# Altium integrated library Capacitors - Ceramic - 0402.IntLib: 4569 symbols (part 22 of 100)
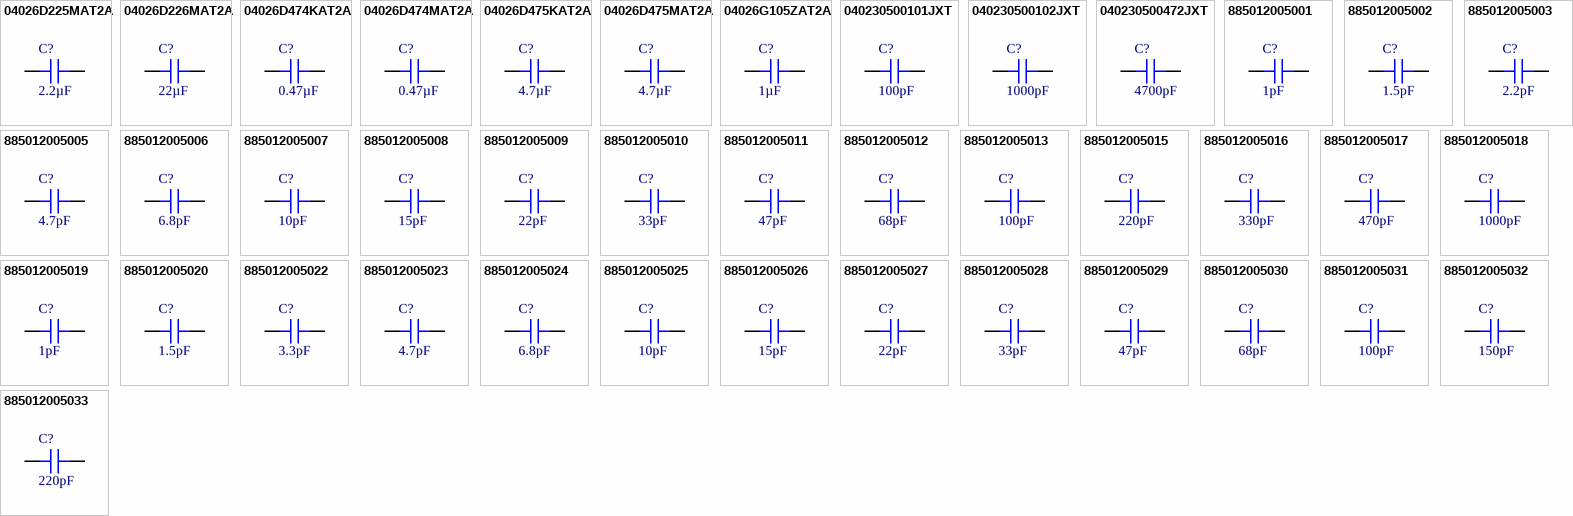
[diagram p135: symbols 04026D225MAT2A to 885012005033]

## 885012005008
designator C?, comment 15pF
CAP CER 15PF 10V C0G/NP0 0402; Part Number: 885012005008; Manufacturer: Würth Elektronik; Temperature Coefficient: C0G, NP0; Tolerance: ±5%; Value: 15pF; Applications: General Purpose; Capacitance: 15pF; ComponentLink1Description: Datasheet; ComponentLink1URL: https://katalog.we-online.de/pbs/datasheet/885012005008.pdf; ComponentLink2Description: DigiKey Link; ComponentLink2URL: http://digikey.com/product-detail/en/w-rth-elektronik/885012005008/732-7426-1-ND/5454053; Device Package: 0402 (1005 Metric); LastUpdated: 9/2/2020 1:02:12 AM; Lifecycle Status: Active; Minimum Order: 1; Mounting Type: Surface Mount, MLCC; Operating Temperature: -55°C ~ 125°C; Package / Case: 0402 (1005 Metric); Packaging: TapeAndReel; PartId: 7101; Part Status: Active; Price: 0.02; Series: WCAP-CSGP; Size / Dimension: 0.039" L x 0.020" W (1.00mm x 0.50mm); Supplier 1: DigiKey; Supplier Part Number 1: 732-7426-1-ND; Thickness (Max): 0.022" (0.55mm); Voltage - Rated: 10V
footprint CAP 0402_1005
pins: 1, 2

## 885012005009
designator C?, comment 22pF
CAP CER 22PF 10V C0G/NP0 0402; Part Number: 885012005009; Manufacturer: Würth Elektronik; Temperature Coefficient: C0G, NP0; Tolerance: ±5%; Value: 22pF; Applications: General Purpose; Capacitance: 22pF; ComponentLink1Description: Datasheet; ComponentLink1URL: https://katalog.we-online.de/pbs/datasheet/885012005009.pdf; ComponentLink2Description: DigiKey Link; ComponentLink2URL: http://digikey.com/product-detail/en/w-rth-elektronik/885012005009/732-7427-1-ND/5454054; Device Package: 0402 (1005 Metric); LastUpdated: 9/2/2020 1:02:11 AM; Lifecycle Status: Active; Minimum Order: 1; Mounting Type: Surface Mount, MLCC; Operating Temperature: -55°C ~ 125°C; Package / Case: 0402 (1005 Metric); Packaging: TapeAndReel; PartId: 7729; Part Status: Active; Price: 0.02; Series: WCAP-CSGP; Size / Dimension: 0.039" L x 0.020" W (1.00mm x 0.50mm); Supplier 1: DigiKey; Supplier Part Number 1: 732-7427-1-ND; Thickness (Max): 0.022" (0.55mm); Voltage - Rated: 10V
footprint CAP 0402_1005
pins: 1, 2

## 885012005010
designator C?, comment 33pF
CAP CER 33PF 10V C0G/NP0 0402; Part Number: 885012005010; Manufacturer: Würth Elektronik; Temperature Coefficient: C0G, NP0; Tolerance: ±5%; Value: 33pF; Applications: General Purpose; Capacitance: 33pF; ComponentLink1Description: Datasheet; ComponentLink1URL: https://katalog.we-online.de/pbs/datasheet/885012005010.pdf; ComponentLink2Description: DigiKey Link; ComponentLink2URL: http://digikey.com/product-detail/en/w-rth-elektronik/885012005010/732-7428-1-ND/5454055; Device Package: 0402 (1005 Metric); LastUpdated: 9/2/2020 1:02:24 AM; Lifecycle Status: Active; Minimum Order: 1; Mounting Type: Surface Mount, MLCC; Operating Temperature: -55°C ~ 125°C; Package / Case: 0402 (1005 Metric); Packaging: TapeAndReel; PartId: 2049; Part Status: Active; Price: 0.02; Series: WCAP-CSGP; Size / Dimension: 0.039" L x 0.020" W (1.00mm x 0.50mm); Supplier 1: DigiKey; Supplier Part Number 1: 732-7428-1-ND; Thickness (Max): 0.022" (0.55mm); Voltage - Rated: 10V
footprint CAP 0402_1005
pins: 1, 2

## 885012005011
designator C?, comment 47pF
CAP CER 47PF 10V C0G/NP0 0402; Part Number: 885012005011; Manufacturer: Würth Elektronik; Temperature Coefficient: C0G, NP0; Tolerance: ±5%; Value: 47pF; Applications: General Purpose; Capacitance: 47pF; ComponentLink1Description: Datasheet; ComponentLink1URL: https://katalog.we-online.de/pbs/datasheet/885012005011.pdf; ComponentLink2Description: DigiKey Link; ComponentLink2URL: http://digikey.com/product-detail/en/w-rth-elektronik/885012005011/732-7429-1-ND/5454056; Device Package: 0402 (1005 Metric); LastUpdated: 9/2/2020 1:02:11 AM; Lifecycle Status: Active; Minimum Order: 1; Mounting Type: Surface Mount, MLCC; Operating Temperature: -55°C ~ 125°C; Package / Case: 0402 (1005 Metric); Packaging: TapeAndReel; PartId: 7738; Part Status: Active; Price: 0.02; Series: WCAP-CSGP; Size / Dimension: 0.039" L x 0.020" W (1.00mm x 0.50mm); Supplier 1: DigiKey; Supplier Part Number 1: 732-7429-1-ND; Thickness (Max): 0.022" (0.55mm); Voltage - Rated: 10V
footprint CAP 0402_1005
pins: 1, 2

## 885012005012
designator C?, comment 68pF
CAP CER 68PF 10V C0G/NP0 0402; Part Number: 885012005012; Manufacturer: Würth Elektronik; Temperature Coefficient: C0G, NP0; Tolerance: ±5%; Value: 68pF; Applications: General Purpose; Capacitance: 68pF; ComponentLink1Description: Datasheet; ComponentLink1URL: https://katalog.we-online.de/pbs/datasheet/885012005012.pdf; ComponentLink2Description: DigiKey Link; ComponentLink2URL: http://digikey.com/product-detail/en/w-rth-elektronik/885012005012/732-7430-1-ND/5454057; Device Package: 0402 (1005 Metric); LastUpdated: 9/2/2020 1:02:22 AM; Lifecycle Status: Active; Minimum Order: 1; Mounting Type: Surface Mount, MLCC; Operating Temperature: -55°C ~ 125°C; Package / Case: 0402 (1005 Metric); Packaging: TapeAndReel; PartId: 2813; Part Status: Active; Price: 0.02; Series: WCAP-CSGP; Size / Dimension: 0.039" L x 0.020" W (1.00mm x 0.50mm); Supplier 1: DigiKey; Supplier Part Number 1: 732-7430-1-ND; Thickness (Max): 0.022" (0.55mm); Voltage - Rated: 10V
footprint CAP 0402_1005
pins: 1, 2

## 885012005013
designator C?, comment 100pF
CAP CER 100PF 10V C0G/NP0 0402; Part Number: 885012005013; Manufacturer: Würth Elektronik; Temperature Coefficient: C0G, NP0; Tolerance: ±5%; Value: 100pF; Applications: General Purpose; Capacitance: 100pF; ComponentLink1Description: Datasheet; ComponentLink1URL: https://katalog.we-online.de/pbs/datasheet/885012005013.pdf; ComponentLink2Description: DigiKey Link; ComponentLink2URL: http://digikey.com/product-detail/en/w-rth-elektronik/885012005013/732-7431-1-ND/5454058; Device Package: 0402 (1005 Metric); LastUpdated: 9/2/2020 1:02:11 AM; Lifecycle Status: Active; Minimum Order: 1; Mounting Type: Surface Mount, MLCC; Operating Temperature: -55°C ~ 125°C; Package / Case: 0402 (1005 Metric); Packaging: TapeAndReel; PartId: 7732; Part Status: Active; Price: 0.02; Series: WCAP-CSGP; Size / Dimension: 0.039" L x 0.020" W (1.00mm x 0.50mm); Supplier 1: DigiKey; Supplier Part Number 1: 732-7431-1-ND; Thickness (Max): 0.022" (0.55mm); Voltage - Rated: 10V
footprint CAP 0402_1005
pins: 1, 2

## 885012005015
designator C?, comment 220pF
CAP CER 220PF 10V C0G/NP0 0402; Part Number: 885012005015; Manufacturer: Würth Elektronik; Temperature Coefficient: C0G, NP0; Tolerance: ±5%; Value: 220pF; Applications: General Purpose; Capacitance: 220pF; ComponentLink1Description: Datasheet; ComponentLink1URL: https://katalog.we-online.de/pbs/datasheet/885012005015.pdf; ComponentLink2Description: DigiKey Link; ComponentLink2URL: http://digikey.com/product-detail/en/w-rth-elektronik/885012005015/732-7433-1-ND/5454060; Device Package: 0402 (1005 Metric); LastUpdated: 9/2/2020 1:02:12 AM; Lifecycle Status: Active; Minimum Order: 1; Mounting Type: Surface Mount, MLCC; Operating Temperature: -55°C ~ 125°C; Package / Case: 0402 (1005 Metric); Packaging: TapeAndReel; PartId: 7067; Part Status: Active; Price: 0.02; Series: WCAP-CSGP; Size / Dimension: 0.039" L x 0.020" W (1.00mm x 0.50mm); Supplier 1: DigiKey; Supplier Part Number 1: 732-7433-1-ND; Thickness (Max): 0.022" (0.55mm); Voltage - Rated: 10V
footprint CAP 0402_1005
pins: 1, 2

## 885012005016
designator C?, comment 330pF
CAP CER 330PF 10V NP0 0402; Part Number: 885012005016; Manufacturer: Würth Elektronik; Temperature Coefficient: C0G, NP0; Tolerance: ±5%; Value: 330pF; Applications: General Purpose; Capacitance: 330pF; ComponentLink1Description: Datasheet; ComponentLink1URL: https://katalog.we-online.de/pbs/datasheet/885012005016.pdf; ComponentLink2Description: DigiKey Link; ComponentLink2URL: http://digikey.com/product-detail/en/w-rth-elektronik/885012005016/732-12246-1-ND/9346266; Device Package: 0402 (1005 Metric); LastUpdated: 9/2/2020 1:02:08 AM; Lifecycle Status: Active; Minimum Order: 1; Mounting Type: Surface Mount, MLCC; Operating Temperature: -55°C ~ 125°C; Package / Case: 0402 (1005 Metric); Packaging: TapeAndReel; PartId: 9165; Part Status: Active; Price: 0.01; Series: WCAP-CSGP; Size / Dimension: 0.039" L x 0.020" W (1.00mm x 0.50mm); Supplier 1: DigiKey; Supplier Part Number 1: 732-12246-1-ND; Thickness (Max): 0.022" (0.55mm); Voltage - Rated: 10V
footprint CAP 0402_1005
pins: 1, 2

## 885012005017
designator C?, comment 470pF
CAP CER 470PF 10V NP0 0402; Part Number: 885012005017; Manufacturer: Würth Elektronik; Temperature Coefficient: C0G, NP0; Tolerance: ±5%; Value: 470pF; Applications: General Purpose; Capacitance: 470pF; ComponentLink1Description: Datasheet; ComponentLink1URL: https://katalog.we-online.de/pbs/datasheet/885012005017.pdf; ComponentLink2Description: DigiKey Link; ComponentLink2URL: http://digikey.com/product-detail/en/w-rth-elektronik/885012005017/732-12247-1-ND/9346267; Device Package: 0402 (1005 Metric); LastUpdated: 9/2/2020 1:02:22 AM; Lifecycle Status: Active; Minimum Order: 1; Mounting Type: Surface Mount, MLCC; Operating Temperature: -55°C ~ 125°C; Package / Case: 0402 (1005 Metric); Packaging: TapeAndReel; PartId: 2628; Part Status: Active; Price: 0.01; Series: WCAP-CSGP; Size / Dimension: 0.039" L x 0.020" W (1.00mm x 0.50mm); Supplier 1: DigiKey; Supplier Part Number 1: 732-12247-1-ND; Thickness (Max): 0.022" (0.55mm); Voltage - Rated: 10V
footprint CAP 0402_1005
pins: 1, 2

## 885012005018
designator C?, comment 1000pF
CAP CER 1000PF 10V C0G/NP0 0402; Part Number: 885012005018; Manufacturer: Würth Elektronik; Temperature Coefficient: C0G, NP0; Tolerance: ±5%; Value: 1000pF; Applications: General Purpose; Capacitance: 1000pF; ComponentLink1Description: Datasheet; ComponentLink1URL: https://katalog.we-online.de/pbs/datasheet/885012005018.pdf; ComponentLink2Description: DigiKey Link; ComponentLink2URL: http://digikey.com/product-detail/en/w-rth-elektronik/885012005018/732-7434-1-ND/5454061; Device Package: 0402 (1005 Metric); LastUpdated: 9/2/2020 1:02:12 AM; Lifecycle Status: Active; Minimum Order: 1; Mounting Type: Surface Mount, MLCC; Operating Temperature: -55°C ~ 125°C; Package / Case: 0402 (1005 Metric); Packaging: TapeAndReel; PartId: 7156; Part Status: Active; Price: 0.04; Series: WCAP-CSGP; Size / Dimension: 0.039" L x 0.020" W (1.00mm x 0.50mm); Supplier 1: DigiKey; Supplier Part Number 1: 732-7434-1-ND; Thickness (Max): 0.022" (0.55mm); Voltage - Rated: 10V
footprint CAP 0402_1005
pins: 1, 2

## 885012005019
designator C?, comment 1pF
CAP CER 1PF 16V C0G/NP0 0402; Part Number: 885012005019; Manufacturer: Würth Elektronik; Temperature Coefficient: C0G, NP0; Tolerance: ±0.5pF; Value: 1pF; Applications: General Purpose; Capacitance: 1pF; ComponentLink1Description: Datasheet; ComponentLink1URL: https://katalog.we-online.de/pbs/datasheet/885012005019.pdf; ComponentLink2Description: DigiKey Link; ComponentLink2URL: http://digikey.com/product-detail/en/w-rth-elektronik/885012005019/732-7435-1-ND/5454062; Device Package: 0402 (1005 Metric); LastUpdated: 9/2/2020 1:02:10 AM; Lifecycle Status: Active; Minimum Order: 1; Mounting Type: Surface Mount, MLCC; Operating Temperature: -55°C ~ 125°C; Package / Case: 0402 (1005 Metric); Packaging: TapeAndReel; PartId: 8079; Part Status: Active; Price: 0.02; Series: WCAP-CSGP; Size / Dimension: 0.039" L x 0.020" W (1.00mm x 0.50mm); Supplier 1: DigiKey; Supplier Part Number 1: 732-7435-1-ND; Thickness (Max): 0.022" (0.55mm); Voltage - Rated: 16V
footprint CAP 0402_1005
pins: 1, 2

## 885012005020
designator C?, comment 1.5pF
CAP CER 1.5PF 16V C0G/NP0 0402; Part Number: 885012005020; Manufacturer: Würth Elektronik; Temperature Coefficient: C0G, NP0; Tolerance: ±0.5pF; Value: 1.5pF; Applications: General Purpose; Capacitance: 1.5pF; ComponentLink1Description: Datasheet; ComponentLink1URL: https://katalog.we-online.de/pbs/datasheet/885012005020.pdf; ComponentLink2Description: DigiKey Link; ComponentLink2URL: http://digikey.com/product-detail/en/w-rth-elektronik/885012005020/732-7436-1-ND/5454063; Device Package: 0402 (1005 Metric); LastUpdated: 9/2/2020 1:02:10 AM; Lifecycle Status: Active; Minimum Order: 1; Mounting Type: Surface Mount, MLCC; Operating Temperature: -55°C ~ 125°C; Package / Case: 0402 (1005 Metric); Packaging: TapeAndReel; PartId: 8126; Part Status: Active; Price: 0.02; Series: WCAP-CSGP; Size / Dimension: 0.039" L x 0.020" W (1.00mm x 0.50mm); Supplier 1: DigiKey; Supplier Part Number 1: 732-7436-1-ND; Thickness (Max): 0.022" (0.55mm); Voltage - Rated: 16V
footprint CAP 0402_1005
pins: 1, 2

## 885012005022
designator C?, comment 3.3pF
CAP CER 3.3PF 16V C0G/NP0 0402; Part Number: 885012005022; Manufacturer: Würth Elektronik; Temperature Coefficient: C0G, NP0; Tolerance: ±0.5pF; Value: 3.3pF; Applications: General Purpose; Capacitance: 3.3pF; ComponentLink1Description: Datasheet; ComponentLink1URL: https://katalog.we-online.de/pbs/datasheet/885012005022.pdf; ComponentLink2Description: DigiKey Link; ComponentLink2URL: http://digikey.com/product-detail/en/w-rth-elektronik/885012005022/732-7438-1-ND/5454065; Device Package: 0402 (1005 Metric); LastUpdated: 9/2/2020 1:02:24 AM; Lifecycle Status: Active; Minimum Order: 1; Mounting Type: Surface Mount, MLCC; Operating Temperature: -55°C ~ 125°C; Package / Case: 0402 (1005 Metric); Packaging: TapeAndReel; PartId: 2019; Part Status: Active; Price: 0.02; Series: WCAP-CSGP; Size / Dimension: 0.039" L x 0.020" W (1.00mm x 0.50mm); Supplier 1: DigiKey; Supplier Part Number 1: 732-7438-1-ND; Thickness (Max): 0.022" (0.55mm); Voltage - Rated: 16V
footprint CAP 0402_1005
pins: 1, 2

## 885012005023
designator C?, comment 4.7pF
CAP CER 4.7PF 16V C0G/NP0 0402; Part Number: 885012005023; Manufacturer: Würth Elektronik; Temperature Coefficient: C0G, NP0; Tolerance: ±0.5pF; Value: 4.7pF; Applications: General Purpose; Capacitance: 4.7pF; ComponentLink1Description: Datasheet; ComponentLink1URL: https://katalog.we-online.de/pbs/datasheet/885012005023.pdf; ComponentLink2Description: DigiKey Link; ComponentLink2URL: http://digikey.com/product-detail/en/w-rth-elektronik/885012005023/732-7439-1-ND/5454066; Device Package: 0402 (1005 Metric); LastUpdated: 9/2/2020 1:02:24 AM; Lifecycle Status: Active; Minimum Order: 1; Mounting Type: Surface Mount, MLCC; Operating Temperature: -55°C ~ 125°C; Package / Case: 0402 (1005 Metric); Packaging: TapeAndReel; PartId: 2042; Part Status: Active; Price: 0.02; Series: WCAP-CSGP; Size / Dimension: 0.039" L x 0.020" W (1.00mm x 0.50mm); Supplier 1: DigiKey; Supplier Part Number 1: 732-7439-1-ND; Thickness (Max): 0.022" (0.55mm); Voltage - Rated: 16V
footprint CAP 0402_1005
pins: 1, 2

## 885012005024
designator C?, comment 6.8pF
CAP CER 6.8PF 16V C0G/NP0 0402; Part Number: 885012005024; Manufacturer: Würth Elektronik; Temperature Coefficient: C0G, NP0; Tolerance: ±0.5pF; Value: 6.8pF; Applications: General Purpose; Capacitance: 6.8pF; ComponentLink1Description: Datasheet; ComponentLink1URL: https://katalog.we-online.de/pbs/datasheet/885012005024.pdf; ComponentLink2Description: DigiKey Link; ComponentLink2URL: http://digikey.com/product-detail/en/w-rth-elektronik/885012005024/732-7440-1-ND/5454067; Device Package: 0402 (1005 Metric); LastUpdated: 9/2/2020 1:02:10 AM; Lifecycle Status: Active; Minimum Order: 1; Mounting Type: Surface Mount, MLCC; Operating Temperature: -55°C ~ 125°C; Package / Case: 0402 (1005 Metric); Packaging: TapeAndReel; PartId: 8046; Part Status: Active; Price: 0.02; Series: WCAP-CSGP; Size / Dimension: 0.039" L x 0.020" W (1.00mm x 0.50mm); Supplier 1: DigiKey; Supplier Part Number 1: 732-7440-1-ND; Thickness (Max): 0.022" (0.55mm); Voltage - Rated: 16V
footprint CAP 0402_1005
pins: 1, 2

## 885012005025
designator C?, comment 10pF
CAP CER 10PF 16V C0G/NP0 0402; Part Number: 885012005025; Manufacturer: Würth Elektronik; Temperature Coefficient: C0G, NP0; Tolerance: ±5%; Value: 10pF; Applications: General Purpose; Capacitance: 10pF; ComponentLink1Description: Datasheet; ComponentLink1URL: https://katalog.we-online.de/pbs/datasheet/885012005025.pdf; ComponentLink2Description: DigiKey Link; ComponentLink2URL: http://digikey.com/product-detail/en/w-rth-elektronik/885012005025/732-7441-1-ND/5454068; Device Package: 0402 (1005 Metric); LastUpdated: 9/2/2020 1:02:24 AM; Lifecycle Status: Active; Minimum Order: 1; Mounting Type: Surface Mount, MLCC; Operating Temperature: -55°C ~ 125°C; Package / Case: 0402 (1005 Metric); Packaging: TapeAndReel; PartId: 1972; Part Status: Active; Price: 0.02; Series: WCAP-CSGP; Size / Dimension: 0.039" L x 0.020" W (1.00mm x 0.50mm); Supplier 1: DigiKey; Supplier Part Number 1: 732-7441-1-ND; Thickness (Max): 0.022" (0.55mm); Voltage - Rated: 16V
footprint CAP 0402_1005
pins: 1, 2

## 885012005026
designator C?, comment 15pF
CAP CER 15PF 16V C0G/NP0 0402; Part Number: 885012005026; Manufacturer: Würth Elektronik; Temperature Coefficient: C0G, NP0; Tolerance: ±5%; Value: 15pF; Applications: General Purpose; Capacitance: 15pF; ComponentLink1Description: Datasheet; ComponentLink1URL: https://katalog.we-online.de/pbs/datasheet/885012005026.pdf; ComponentLink2Description: DigiKey Link; ComponentLink2URL: http://digikey.com/product-detail/en/w-rth-elektronik/885012005026/732-7442-1-ND/5454069; Device Package: 0402 (1005 Metric); LastUpdated: 9/2/2020 1:02:22 AM; Lifecycle Status: Active; Minimum Order: 1; Mounting Type: Surface Mount, MLCC; Operating Temperature: -55°C ~ 125°C; Package / Case: 0402 (1005 Metric); Packaging: TapeAndReel; PartId: 2710; Part Status: Active; Price: 0.02; Series: WCAP-CSGP; Size / Dimension: 0.039" L x 0.020" W (1.00mm x 0.50mm); Supplier 1: DigiKey; Supplier Part Number 1: 732-7442-1-ND; Thickness (Max): 0.022" (0.55mm); Voltage - Rated: 16V
footprint CAP 0402_1005
pins: 1, 2

## 885012005027
designator C?, comment 22pF
CAP CER 22PF 16V C0G/NP0 0402; Part Number: 885012005027; Manufacturer: Würth Elektronik; Temperature Coefficient: C0G, NP0; Tolerance: ±5%; Value: 22pF; Applications: General Purpose; Capacitance: 22pF; ComponentLink1Description: Datasheet; ComponentLink1URL: https://katalog.we-online.de/pbs/datasheet/885012005027.pdf; ComponentLink2Description: DigiKey Link; ComponentLink2URL: http://digikey.com/product-detail/en/w-rth-elektronik/885012005027/732-7443-1-ND/5454070; Device Package: 0402 (1005 Metric); LastUpdated: 9/2/2020 1:02:12 AM; Lifecycle Status: Active; Minimum Order: 1; Mounting Type: Surface Mount, MLCC; Operating Temperature: -55°C ~ 125°C; Package / Case: 0402 (1005 Metric); Packaging: TapeAndReel; PartId: 7083; Part Status: Active; Price: 0.02; Series: WCAP-CSGP; Size / Dimension: 0.039" L x 0.020" W (1.00mm x 0.50mm); Supplier 1: DigiKey; Supplier Part Number 1: 732-7443-1-ND; Thickness (Max): 0.022" (0.55mm); Voltage - Rated: 16V
footprint CAP 0402_1005
pins: 1, 2

## 885012005028
designator C?, comment 33pF
CAP CER 33PF 16V C0G/NP0 0402; Part Number: 885012005028; Manufacturer: Würth Elektronik; Temperature Coefficient: C0G, NP0; Tolerance: ±5%; Value: 33pF; Applications: General Purpose; Capacitance: 33pF; ComponentLink1Description: Datasheet; ComponentLink1URL: https://katalog.we-online.de/pbs/datasheet/885012005028.pdf; ComponentLink2Description: DigiKey Link; ComponentLink2URL: http://digikey.com/product-detail/en/w-rth-elektronik/885012005028/732-7444-1-ND/5454071; Device Package: 0402 (1005 Metric); LastUpdated: 9/2/2020 1:02:12 AM; Lifecycle Status: Active; Minimum Order: 1; Mounting Type: Surface Mount, MLCC; Operating Temperature: -55°C ~ 125°C; Package / Case: 0402 (1005 Metric); Packaging: TapeAndReel; PartId: 7064; Part Status: Active; Price: 0.02; Series: WCAP-CSGP; Size / Dimension: 0.039" L x 0.020" W (1.00mm x 0.50mm); Supplier 1: DigiKey; Supplier Part Number 1: 732-7444-1-ND; Thickness (Max): 0.022" (0.55mm); Voltage - Rated: 16V
footprint CAP 0402_1005
pins: 1, 2

## 885012005029
designator C?, comment 47pF
CAP CER 47PF 16V C0G/NP0 0402; Part Number: 885012005029; Manufacturer: Würth Elektronik; Temperature Coefficient: C0G, NP0; Tolerance: ±5%; Value: 47pF; Applications: General Purpose; Capacitance: 47pF; ComponentLink1Description: Datasheet; ComponentLink1URL: https://katalog.we-online.de/pbs/datasheet/885012005029.pdf; ComponentLink2Description: DigiKey Link; ComponentLink2URL: http://digikey.com/product-detail/en/w-rth-elektronik/885012005029/732-7445-1-ND/5454072; Device Package: 0402 (1005 Metric); LastUpdated: 9/2/2020 1:02:24 AM; Lifecycle Status: Active; Minimum Order: 1; Mounting Type: Surface Mount, MLCC; Operating Temperature: -55°C ~ 125°C; Package / Case: 0402 (1005 Metric); Packaging: TapeAndReel; PartId: 2025; Part Status: Active; Price: 0.02; Series: WCAP-CSGP; Size / Dimension: 0.039" L x 0.020" W (1.00mm x 0.50mm); Supplier 1: DigiKey; Supplier Part Number 1: 732-7445-1-ND; Thickness (Max): 0.022" (0.55mm); Voltage - Rated: 16V
footprint CAP 0402_1005
pins: 1, 2

## 885012005030
designator C?, comment 68pF
CAP CER 68PF 16V C0G/NP0 0402; Part Number: 885012005030; Manufacturer: Würth Elektronik; Temperature Coefficient: C0G, NP0; Tolerance: ±5%; Value: 68pF; Applications: General Purpose; Capacitance: 68pF; ComponentLink1Description: Datasheet; ComponentLink1URL: https://katalog.we-online.de/pbs/datasheet/885012005030.pdf; ComponentLink2Description: DigiKey Link; ComponentLink2URL: http://digikey.com/product-detail/en/w-rth-elektronik/885012005030/732-7446-1-ND/5454073; Device Package: 0402 (1005 Metric); LastUpdated: 9/2/2020 1:02:05 AM; Lifecycle Status: Active; Minimum Order: 1; Mounting Type: Surface Mount, MLCC; Operating Temperature: -55°C ~ 125°C; Package / Case: 0402 (1005 Metric); Packaging: TapeAndReel; PartId: 10271; Part Status: Active; Price: 0.02; Series: WCAP-CSGP; Size / Dimension: 0.039" L x 0.020" W (1.00mm x 0.50mm); Supplier 1: DigiKey; Supplier Part Number 1: 732-7446-1-ND; Thickness (Max): 0.022" (0.55mm); Voltage - Rated: 16V
footprint CAP 0402_1005
pins: 1, 2

## 885012005031
designator C?, comment 100pF
CAP CER 100PF 16V C0G/NP0 0402; Part Number: 885012005031; Manufacturer: Würth Elektronik; Temperature Coefficient: C0G, NP0; Tolerance: ±5%; Value: 100pF; Applications: General Purpose; Capacitance: 100pF; ComponentLink1Description: Datasheet; ComponentLink1URL: https://katalog.we-online.de/pbs/datasheet/885012005031.pdf; ComponentLink2Description: DigiKey Link; ComponentLink2URL: http://digikey.com/product-detail/en/w-rth-elektronik/885012005031/732-7447-1-ND/5454074; Device Package: 0402 (1005 Metric); LastUpdated: 9/2/2020 1:02:12 AM; Lifecycle Status: Active; Minimum Order: 1; Mounting Type: Surface Mount, MLCC; Operating Temperature: -55°C ~ 125°C; Package / Case: 0402 (1005 Metric); Packaging: TapeAndReel; PartId: 7113; Part Status: Active; Price: 0.01; Series: WCAP-CSGP; Size / Dimension: 0.039" L x 0.020" W (1.00mm x 0.50mm); Supplier 1: DigiKey; Supplier Part Number 1: 732-7447-1-ND; Thickness (Max): 0.022" (0.55mm); Voltage - Rated: 16V
footprint CAP 0402_1005
pins: 1, 2

## 885012005032
designator C?, comment 150pF
CAP CER 150PF 16V C0G/NP0 0402; Part Number: 885012005032; Manufacturer: Würth Elektronik; Temperature Coefficient: C0G, NP0; Tolerance: ±5%; Value: 150pF; Applications: General Purpose; Capacitance: 150pF; ComponentLink1Description: Datasheet; ComponentLink1URL: https://katalog.we-online.de/pbs/datasheet/885012005032.pdf; ComponentLink2Description: DigiKey Link; ComponentLink2URL: http://digikey.com/product-detail/en/w-rth-elektronik/885012005032/732-7448-1-ND/5454075; Device Package: 0402 (1005 Metric); LastUpdated: 9/2/2020 1:02:22 AM; Lifecycle Status: Active; Minimum Order: 1; Mounting Type: Surface Mount, MLCC; Operating Temperature: -55°C ~ 125°C; Package / Case: 0402 (1005 Metric); Packaging: TapeAndReel; PartId: 2741; Part Status: Active; Price: 0.01; Series: WCAP-CSGP; Size / Dimension: 0.039" L x 0.020" W (1.00mm x 0.50mm); Supplier 1: DigiKey; Supplier Part Number 1: 732-7448-1-ND; Thickness (Max): 0.022" (0.55mm); Voltage - Rated: 16V
footprint CAP 0402_1005
pins: 1, 2

## 885012005033
designator C?, comment 220pF
CAP CER 220PF 16V C0G/NP0 0402; Part Number: 885012005033; Manufacturer: Würth Elektronik; Temperature Coefficient: C0G, NP0; Tolerance: ±5%; Value: 220pF; Applications: General Purpose; Capacitance: 220pF; ComponentLink1Description: Datasheet; ComponentLink1URL: https://katalog.we-online.de/pbs/datasheet/885012005033.pdf; ComponentLink2Description: DigiKey Link; ComponentLink2URL: http://digikey.com/product-detail/en/w-rth-elektronik/885012005033/732-7449-1-ND/5454076; Device Package: 0402 (1005 Metric); LastUpdated: 9/2/2020 1:02:22 AM; Lifecycle Status: Active; Minimum Order: 1; Mounting Type: Surface Mount, MLCC; Operating Temperature: -55°C ~ 125°C; Package / Case: 0402 (1005 Metric); Packaging: TapeAndReel; PartId: 2795; Part Status: Active; Price: 0.02; Series: WCAP-CSGP; Size / Dimension: 0.039" L x 0.020" W (1.00mm x 0.50mm); Supplier 1: DigiKey; Supplier Part Number 1: 732-7449-1-ND; Thickness (Max): 0.022" (0.55mm); Voltage - Rated: 16V
footprint CAP 0402_1005
pins: 1, 2

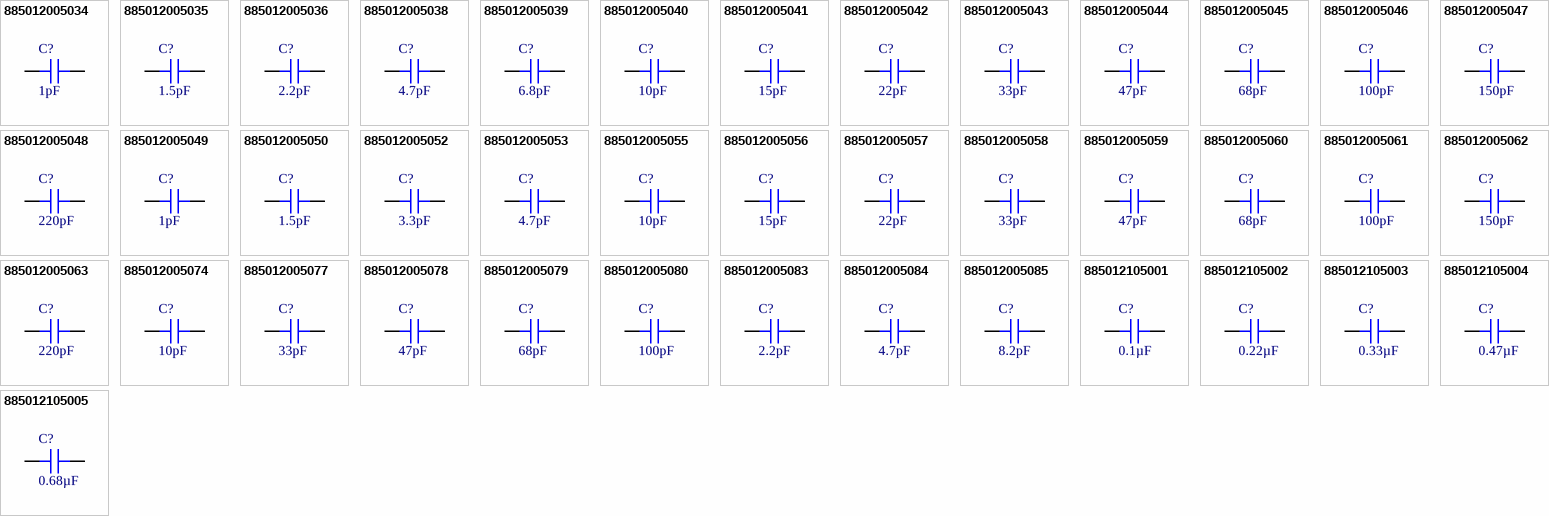
[diagram p25: symbols 885012005034 to 885012105005]

## 885012005034
designator C?, comment 1pF
CAP CER 1PF 25V C0G/NP0 0402; Part Number: 885012005034; Manufacturer: Würth Elektronik; Temperature Coefficient: C0G, NP0; Tolerance: ±0.5pF; Value: 1pF; Applications: General Purpose; Capacitance: 1pF; ComponentLink1Description: Datasheet; ComponentLink1URL: https://katalog.we-online.de/pbs/datasheet/885012005034.pdf; ComponentLink2Description: DigiKey Link; ComponentLink2URL: http://digikey.com/product-detail/en/w-rth-elektronik/885012005034/732-7450-1-ND/5454077; Device Package: 0402 (1005 Metric); LastUpdated: 9/2/2020 1:02:05 AM; Lifecycle Status: Active; Minimum Order: 1; Mounting Type: Surface Mount, MLCC; Operating Temperature: -55°C ~ 125°C; Package / Case: 0402 (1005 Metric); Packaging: TapeAndReel; PartId: 10281; Part Status: Active; Price: 0.02; Series: WCAP-CSGP; Size / Dimension: 0.039" L x 0.020" W (1.00mm x 0.50mm); Supplier 1: DigiKey; Supplier Part Number 1: 732-7450-1-ND; Thickness (Max): 0.022" (0.55mm); Voltage - Rated: 25V
footprint CAP 0402_1005
pins: 1, 2

## 885012005035
designator C?, comment 1.5pF
CAP CER 1.5PF 25V C0G/NP0 0402; Part Number: 885012005035; Manufacturer: Würth Elektronik; Temperature Coefficient: C0G, NP0; Tolerance: ±0.5pF; Value: 1.5pF; Applications: General Purpose; Capacitance: 1.5pF; ComponentLink1Description: Datasheet; ComponentLink1URL: https://katalog.we-online.de/pbs/datasheet/885012005035.pdf; ComponentLink2Description: DigiKey Link; ComponentLink2URL: http://digikey.com/product-detail/en/w-rth-elektronik/885012005035/732-7451-1-ND/5454078; Device Package: 0402 (1005 Metric); LastUpdated: 9/2/2020 1:02:10 AM; Lifecycle Status: Active; Minimum Order: 1; Mounting Type: Surface Mount, MLCC; Operating Temperature: -55°C ~ 125°C; Package / Case: 0402 (1005 Metric); Packaging: TapeAndReel; PartId: 8151; Part Status: Active; Price: 0.02; Series: WCAP-CSGP; Size / Dimension: 0.039" L x 0.020" W (1.00mm x 0.50mm); Supplier 1: DigiKey; Supplier Part Number 1: 732-7451-1-ND; Thickness (Max): 0.022" (0.55mm); Voltage - Rated: 25V
footprint CAP 0402_1005
pins: 1, 2

## 885012005036
designator C?, comment 2.2pF
CAP CER 2.2PF 25V C0G/NP0 0402; Part Number: 885012005036; Manufacturer: Würth Elektronik; Temperature Coefficient: C0G, NP0; Tolerance: ±0.5pF; Value: 2.2pF; Applications: General Purpose; Capacitance: 2.2pF; ComponentLink1Description: Datasheet; ComponentLink1URL: https://katalog.we-online.de/pbs/datasheet/885012005036.pdf; ComponentLink2Description: DigiKey Link; ComponentLink2URL: http://digikey.com/product-detail/en/w-rth-elektronik/885012005036/732-7452-1-ND/5454079; Device Package: 0402 (1005 Metric); LastUpdated: 9/2/2020 1:02:22 AM; Lifecycle Status: Active; Minimum Order: 1; Mounting Type: Surface Mount, MLCC; Operating Temperature: -55°C ~ 125°C; Package / Case: 0402 (1005 Metric); Packaging: TapeAndReel; PartId: 2781; Part Status: Active; Price: 0.02; Series: WCAP-CSGP; Size / Dimension: 0.039" L x 0.020" W (1.00mm x 0.50mm); Supplier 1: DigiKey; Supplier Part Number 1: 732-7452-1-ND; Thickness (Max): 0.022" (0.55mm); Voltage - Rated: 25V
footprint CAP 0402_1005
pins: 1, 2

## 885012005038
designator C?, comment 4.7pF
CAP CER 4.7PF 25V C0G/NP0 0402; Part Number: 885012005038; Manufacturer: Würth Elektronik; Temperature Coefficient: C0G, NP0; Tolerance: ±0.5pF; Value: 4.7pF; Applications: General Purpose; Capacitance: 4.7pF; ComponentLink1Description: Datasheet; ComponentLink1URL: https://katalog.we-online.de/pbs/datasheet/885012005038.pdf; ComponentLink2Description: DigiKey Link; ComponentLink2URL: http://digikey.com/product-detail/en/w-rth-elektronik/885012005038/732-7454-1-ND/5454081; Device Package: 0402 (1005 Metric); LastUpdated: 9/2/2020 1:02:22 AM; Lifecycle Status: Active; Minimum Order: 1; Mounting Type: Surface Mount, MLCC; Operating Temperature: -55°C ~ 125°C; Package / Case: 0402 (1005 Metric); Packaging: TapeAndReel; PartId: 2596; Part Status: Active; Price: 0.02; Series: WCAP-CSGP; Size / Dimension: 0.039" L x 0.020" W (1.00mm x 0.50mm); Supplier 1: DigiKey; Supplier Part Number 1: 732-7454-1-ND; Thickness (Max): 0.022" (0.55mm); Voltage - Rated: 25V
footprint CAP 0402_1005
pins: 1, 2

## 885012005039
designator C?, comment 6.8pF
CAP CER 6.8PF 25V NP0 0402; Part Number: 885012005039; Manufacturer: Würth Elektronik; Temperature Coefficient: C0G, NP0; Tolerance: ±0.5pF; Value: 6.8pF; Applications: General Purpose; Capacitance: 6.8pF; ComponentLink1Description: Datasheet; ComponentLink1URL: https://katalog.we-online.de/pbs/datasheet/885012005039.pdf; ComponentLink2Description: DigiKey Link; ComponentLink2URL: http://digikey.com/product-detail/en/w-rth-elektronik/885012005039/732-12248-1-ND/9346268; Device Package: 0402 (1005 Metric); LastUpdated: 9/2/2020 1:02:10 AM; Lifecycle Status: Active; Minimum Order: 1; Mounting Type: Surface Mount, MLCC; Operating Temperature: -55°C ~ 125°C; Package / Case: 0402 (1005 Metric); Packaging: TapeAndReel; PartId: 8199; Part Status: Active; Price: 0.01; Series: WCAP-CSGP; Size / Dimension: 0.039" L x 0.020" W (1.00mm x 0.50mm); Supplier 1: DigiKey; Supplier Part Number 1: 732-12248-1-ND; Thickness (Max): 0.022" (0.55mm); Voltage - Rated: 25V
footprint CAP 0402_1005
pins: 1, 2

## 885012005040
designator C?, comment 10pF
CAP CER 10PF 25V C0G/NP0 0402; Part Number: 885012005040; Manufacturer: Würth Elektronik; Temperature Coefficient: C0G, NP0; Tolerance: ±5%; Value: 10pF; Applications: General Purpose; Capacitance: 10pF; ComponentLink1Description: Datasheet; ComponentLink1URL: https://katalog.we-online.de/pbs/datasheet/885012005040.pdf; ComponentLink2Description: DigiKey Link; ComponentLink2URL: http://digikey.com/product-detail/en/w-rth-elektronik/885012005040/732-7455-1-ND/5454082; Device Package: 0402 (1005 Metric); LastUpdated: 9/2/2020 1:02:11 AM; Lifecycle Status: Active; Minimum Order: 1; Mounting Type: Surface Mount, MLCC; Operating Temperature: -55°C ~ 125°C; Package / Case: 0402 (1005 Metric); Packaging: TapeAndReel; PartId: 7740; Part Status: Active; Price: 0.02; Series: WCAP-CSGP; Size / Dimension: 0.039" L x 0.020" W (1.00mm x 0.50mm); Supplier 1: DigiKey; Supplier Part Number 1: 732-7455-1-ND; Thickness (Max): 0.022" (0.55mm); Voltage - Rated: 25V
footprint CAP 0402_1005
pins: 1, 2

## 885012005041
designator C?, comment 15pF
CAP CER 15PF 25V C0G/NP0 0402; Part Number: 885012005041; Manufacturer: Würth Elektronik; Temperature Coefficient: C0G, NP0; Tolerance: ±5%; Value: 15pF; Applications: General Purpose; Capacitance: 15pF; ComponentLink1Description: Datasheet; ComponentLink1URL: https://katalog.we-online.de/pbs/datasheet/885012005041.pdf; ComponentLink2Description: DigiKey Link; ComponentLink2URL: http://digikey.com/product-detail/en/w-rth-elektronik/885012005041/732-7456-1-ND/5454083; Device Package: 0402 (1005 Metric); LastUpdated: 9/2/2020 1:02:13 AM; Lifecycle Status: Active; Minimum Order: 1; Mounting Type: Surface Mount, MLCC; Operating Temperature: -55°C ~ 125°C; Package / Case: 0402 (1005 Metric); Packaging: TapeAndReel; PartId: 7027; Part Status: Active; Price: 0.02; Series: WCAP-CSGP; Size / Dimension: 0.039" L x 0.020" W (1.00mm x 0.50mm); Supplier 1: DigiKey; Supplier Part Number 1: 732-7456-1-ND; Thickness (Max): 0.022" (0.55mm); Voltage - Rated: 25V
footprint CAP 0402_1005
pins: 1, 2

## 885012005042
designator C?, comment 22pF
CAP CER 22PF 25V C0G/NP0 0402; Part Number: 885012005042; Manufacturer: Würth Elektronik; Temperature Coefficient: C0G, NP0; Tolerance: ±5%; Value: 22pF; Applications: General Purpose; Capacitance: 22pF; ComponentLink1Description: Datasheet; ComponentLink1URL: https://katalog.we-online.de/pbs/datasheet/885012005042.pdf; ComponentLink2Description: DigiKey Link; ComponentLink2URL: http://digikey.com/product-detail/en/w-rth-elektronik/885012005042/732-7457-1-ND/5454084; Device Package: 0402 (1005 Metric); LastUpdated: 9/2/2020 1:02:10 AM; Lifecycle Status: Active; Minimum Order: 1; Mounting Type: Surface Mount, MLCC; Operating Temperature: -55°C ~ 125°C; Package / Case: 0402 (1005 Metric); Packaging: TapeAndReel; PartId: 8032; Part Status: Active; Price: 0.02; Series: WCAP-CSGP; Size / Dimension: 0.039" L x 0.020" W (1.00mm x 0.50mm); Supplier 1: DigiKey; Supplier Part Number 1: 732-7457-1-ND; Thickness (Max): 0.022" (0.55mm); Voltage - Rated: 25V
footprint CAP 0402_1005
pins: 1, 2

## 885012005043
designator C?, comment 33pF
CAP CER 33PF 25V C0G/NP0 0402; Part Number: 885012005043; Manufacturer: Würth Elektronik; Temperature Coefficient: C0G, NP0; Tolerance: ±5%; Value: 33pF; Applications: General Purpose; Capacitance: 33pF; ComponentLink1Description: Datasheet; ComponentLink1URL: https://katalog.we-online.de/pbs/datasheet/885012005043.pdf; ComponentLink2Description: DigiKey Link; ComponentLink2URL: http://digikey.com/product-detail/en/w-rth-elektronik/885012005043/732-7458-1-ND/5454085; Device Package: 0402 (1005 Metric); LastUpdated: 9/2/2020 1:02:24 AM; Lifecycle Status: Active; Minimum Order: 1; Mounting Type: Surface Mount, MLCC; Operating Temperature: -55°C ~ 125°C; Package / Case: 0402 (1005 Metric); Packaging: TapeAndReel; PartId: 2058; Part Status: Active; Price: 0.02; Series: WCAP-CSGP; Size / Dimension: 0.039" L x 0.020" W (1.00mm x 0.50mm); Supplier 1: DigiKey; Supplier Part Number 1: 732-7458-1-ND; Thickness (Max): 0.022" (0.55mm); Voltage - Rated: 25V
footprint CAP 0402_1005
pins: 1, 2

## 885012005044
designator C?, comment 47pF
CAP CER 47PF 25V C0G/NP0 0402; Part Number: 885012005044; Manufacturer: Würth Elektronik; Temperature Coefficient: C0G, NP0; Tolerance: ±5%; Value: 47pF; Applications: General Purpose; Capacitance: 47pF; ComponentLink1Description: Datasheet; ComponentLink1URL: https://katalog.we-online.de/pbs/datasheet/885012005044.pdf; ComponentLink2Description: DigiKey Link; ComponentLink2URL: http://digikey.com/product-detail/en/w-rth-elektronik/885012005044/732-7459-1-ND/5454086; Device Package: 0402 (1005 Metric); LastUpdated: 9/2/2020 1:02:24 AM; Lifecycle Status: Active; Minimum Order: 1; Mounting Type: Surface Mount, MLCC; Operating Temperature: -55°C ~ 125°C; Package / Case: 0402 (1005 Metric); Packaging: TapeAndReel; PartId: 2006; Part Status: Active; Price: 0.02; Series: WCAP-CSGP; Size / Dimension: 0.039" L x 0.020" W (1.00mm x 0.50mm); Supplier 1: DigiKey; Supplier Part Number 1: 732-7459-1-ND; Thickness (Max): 0.022" (0.55mm); Voltage - Rated: 25V
footprint CAP 0402_1005
pins: 1, 2

## 885012005045
designator C?, comment 68pF
CAP CER 68PF 25V C0G/NP0 0402; Part Number: 885012005045; Manufacturer: Würth Elektronik; Temperature Coefficient: C0G, NP0; Tolerance: ±5%; Value: 68pF; Applications: General Purpose; Capacitance: 68pF; ComponentLink1Description: Datasheet; ComponentLink1URL: https://katalog.we-online.de/pbs/datasheet/885012005045.pdf; ComponentLink2Description: DigiKey Link; ComponentLink2URL: http://digikey.com/product-detail/en/w-rth-elektronik/885012005045/732-7460-1-ND/5454087; Device Package: 0402 (1005 Metric); LastUpdated: 9/2/2020 1:02:11 AM; Lifecycle Status: Active; Minimum Order: 1; Mounting Type: Surface Mount, MLCC; Operating Temperature: -55°C ~ 125°C; Package / Case: 0402 (1005 Metric); Packaging: TapeAndReel; PartId: 7743; Part Status: Active; Price: 0.02; Series: WCAP-CSGP; Size / Dimension: 0.039" L x 0.020" W (1.00mm x 0.50mm); Supplier 1: DigiKey; Supplier Part Number 1: 732-7460-1-ND; Thickness (Max): 0.022" (0.55mm); Voltage - Rated: 25V
footprint CAP 0402_1005
pins: 1, 2

## 885012005046
designator C?, comment 100pF
CAP CER 100PF 25V C0G/NP0 0402; Part Number: 885012005046; Manufacturer: Würth Elektronik; Temperature Coefficient: C0G, NP0; Tolerance: ±5%; Value: 100pF; Applications: General Purpose; Capacitance: 100pF; ComponentLink1Description: Datasheet; ComponentLink1URL: https://katalog.we-online.de/pbs/datasheet/885012005046.pdf; ComponentLink2Description: DigiKey Link; ComponentLink2URL: http://digikey.com/product-detail/en/w-rth-elektronik/885012005046/732-7461-1-ND/5454088; Device Package: 0402 (1005 Metric); LastUpdated: 9/2/2020 1:02:11 AM; Lifecycle Status: Active; Minimum Order: 1; Mounting Type: Surface Mount, MLCC; Operating Temperature: -55°C ~ 125°C; Package / Case: 0402 (1005 Metric); Packaging: TapeAndReel; PartId: 7744; Part Status: Active; Price: 0.02; Series: WCAP-CSGP; Size / Dimension: 0.039" L x 0.020" W (1.00mm x 0.50mm); Supplier 1: DigiKey; Supplier Part Number 1: 732-7461-1-ND; Thickness (Max): 0.022" (0.55mm); Voltage - Rated: 25V
footprint CAP 0402_1005
pins: 1, 2

## 885012005047
designator C?, comment 150pF
CAP CER 150PF 25V C0G/NP0 0402; Part Number: 885012005047; Manufacturer: Würth Elektronik; Temperature Coefficient: C0G, NP0; Tolerance: ±5%; Value: 150pF; Applications: General Purpose; Capacitance: 150pF; ComponentLink1Description: Datasheet; ComponentLink1URL: https://katalog.we-online.de/pbs/datasheet/885012005047.pdf; ComponentLink2Description: DigiKey Link; ComponentLink2URL: http://digikey.com/product-detail/en/w-rth-elektronik/885012005047/732-7462-1-ND/5454089; Device Package: 0402 (1005 Metric); LastUpdated: 9/2/2020 1:02:24 AM; Lifecycle Status: Active; Minimum Order: 1; Mounting Type: Surface Mount, MLCC; Operating Temperature: -55°C ~ 125°C; Package / Case: 0402 (1005 Metric); Packaging: TapeAndReel; PartId: 2030; Part Status: Active; Price: 0.02; Series: WCAP-CSGP; Size / Dimension: 0.039" L x 0.020" W (1.00mm x 0.50mm); Supplier 1: DigiKey; Supplier Part Number 1: 732-7462-1-ND; Thickness (Max): 0.022" (0.55mm); Voltage - Rated: 25V
footprint CAP 0402_1005
pins: 1, 2

## 885012005048
designator C?, comment 220pF
CAP CER 220PF 25V C0G/NP0 0402; Part Number: 885012005048; Manufacturer: Würth Elektronik; Temperature Coefficient: C0G, NP0; Tolerance: ±5%; Value: 220pF; Applications: General Purpose; Capacitance: 220pF; ComponentLink1Description: Datasheet; ComponentLink1URL: https://katalog.we-online.de/pbs/datasheet/885012005048.pdf; ComponentLink2Description: DigiKey Link; ComponentLink2URL: http://digikey.com/product-detail/en/w-rth-elektronik/885012005048/732-7463-1-ND/5454090; Device Package: 0402 (1005 Metric); LastUpdated: 9/2/2020 1:02:05 AM; Lifecycle Status: Active; Minimum Order: 1; Mounting Type: Surface Mount, MLCC; Operating Temperature: -55°C ~ 125°C; Package / Case: 0402 (1005 Metric); Packaging: TapeAndReel; PartId: 10330; Part Status: Active; Price: 0.02; Series: WCAP-CSGP; Size / Dimension: 0.039" L x 0.020" W (1.00mm x 0.50mm); Supplier 1: DigiKey; Supplier Part Number 1: 732-7463-1-ND; Thickness (Max): 0.022" (0.55mm); Voltage - Rated: 25V
footprint CAP 0402_1005
pins: 1, 2

## 885012005049
designator C?, comment 1pF
CAP CER 1PF 50V C0G/NP0 0402; Part Number: 885012005049; Manufacturer: Würth Elektronik; Temperature Coefficient: C0G, NP0; Tolerance: ±0.5pF; Value: 1pF; Applications: General Purpose; Capacitance: 1pF; ComponentLink1Description: Datasheet; ComponentLink1URL: https://katalog.we-online.de/pbs/datasheet/885012005049.pdf; ComponentLink2Description: DigiKey Link; ComponentLink2URL: http://digikey.com/product-detail/en/w-rth-elektronik/885012005049/732-7464-1-ND/5454091; Device Package: 0402 (1005 Metric); LastUpdated: 9/2/2020 1:02:24 AM; Lifecycle Status: Active; Minimum Order: 1; Mounting Type: Surface Mount, MLCC; Operating Temperature: -55°C ~ 125°C; Package / Case: 0402 (1005 Metric); Packaging: TapeAndReel; PartId: 2036; Part Status: Active; Price: 0.02; Series: WCAP-CSGP; Size / Dimension: 0.039" L x 0.020" W (1.00mm x 0.50mm); Supplier 1: DigiKey; Supplier Part Number 1: 732-7464-1-ND; Thickness (Max): 0.022" (0.55mm); Voltage - Rated: 50V
footprint CAP 0402_1005
pins: 1, 2

## 885012005050
designator C?, comment 1.5pF
CAP CER 1.5PF 50V NP0 0402; Part Number: 885012005050; Manufacturer: Würth Elektronik; Temperature Coefficient: C0G, NP0; Tolerance: ±0.5pF; Value: 1.5pF; Applications: General Purpose; Capacitance: 1.5pF; ComponentLink1Description: Datasheet; ComponentLink1URL: https://katalog.we-online.de/pbs/datasheet/885012005050.pdf; ComponentLink2Description: DigiKey Link; ComponentLink2URL: http://digikey.com/product-detail/en/w-rth-elektronik/885012005050/732-12249-1-ND/9346269; Device Package: 0402 (1005 Metric); LastUpdated: 9/2/2020 1:02:24 AM; Lifecycle Status: Active; Minimum Order: 1; Mounting Type: Surface Mount, MLCC; Operating Temperature: -55°C ~ 125°C; Package / Case: 0402 (1005 Metric); Packaging: TapeAndReel; PartId: 1888; Part Status: Active; Price: 0.01; Series: WCAP-CSGP; Size / Dimension: 0.039" L x 0.020" W (1.00mm x 0.50mm); Supplier 1: DigiKey; Supplier Part Number 1: 732-12249-1-ND; Thickness (Max): 0.022" (0.55mm); Voltage - Rated: 50V
footprint CAP 0402_1005
pins: 1, 2

## 885012005052
designator C?, comment 3.3pF
CAP CER 3.3PF 50V C0G/NP0 0402; Part Number: 885012005052; Manufacturer: Würth Elektronik; Temperature Coefficient: C0G, NP0; Tolerance: ±0.5pF; Value: 3.3pF; Applications: General Purpose; Capacitance: 3.3pF; ComponentLink1Description: Datasheet; ComponentLink1URL: https://katalog.we-online.de/pbs/datasheet/885012005052.pdf; ComponentLink2Description: DigiKey Link; ComponentLink2URL: http://digikey.com/product-detail/en/w-rth-elektronik/885012005052/732-7466-1-ND/5454093; Device Package: 0402 (1005 Metric); LastUpdated: 9/2/2020 1:02:22 AM; Lifecycle Status: Active; Minimum Order: 1; Mounting Type: Surface Mount, MLCC; Operating Temperature: -55°C ~ 125°C; Package / Case: 0402 (1005 Metric); Packaging: TapeAndReel; PartId: 2700; Part Status: Active; Price: 0.02; Series: WCAP-CSGP; Size / Dimension: 0.039" L x 0.020" W (1.00mm x 0.50mm); Supplier 1: DigiKey; Supplier Part Number 1: 732-7466-1-ND; Thickness (Max): 0.022" (0.55mm); Voltage - Rated: 50V
footprint CAP 0402_1005
pins: 1, 2

## 885012005053
designator C?, comment 4.7pF
CAP CER 4.7PF 50V C0G/NP0 0402; Part Number: 885012005053; Manufacturer: Würth Elektronik; Temperature Coefficient: C0G, NP0; Tolerance: ±0.5pF; Value: 4.7pF; Applications: General Purpose; Capacitance: 4.7pF; ComponentLink1Description: Datasheet; ComponentLink1URL: https://katalog.we-online.de/pbs/datasheet/885012005053.pdf; ComponentLink2Description: DigiKey Link; ComponentLink2URL: http://digikey.com/product-detail/en/w-rth-elektronik/885012005053/732-7467-1-ND/5454094; Device Package: 0402 (1005 Metric); LastUpdated: 9/2/2020 1:02:06 AM; Lifecycle Status: Active; Minimum Order: 1; Mounting Type: Surface Mount, MLCC; Operating Temperature: -55°C ~ 125°C; Package / Case: 0402 (1005 Metric); Packaging: TapeAndReel; PartId: 9986; Part Status: Active; Price: 0.02; Series: WCAP-CSGP; Size / Dimension: 0.039" L x 0.020" W (1.00mm x 0.50mm); Supplier 1: DigiKey; Supplier Part Number 1: 732-7467-1-ND; Thickness (Max): 0.022" (0.55mm); Voltage - Rated: 50V
footprint CAP 0402_1005
pins: 1, 2

## 885012005055
designator C?, comment 10pF
CAP CER 10PF 50V C0G/NP0 0402; Part Number: 885012005055; Manufacturer: Würth Elektronik; Temperature Coefficient: C0G, NP0; Tolerance: ±5%; Value: 10pF; Applications: General Purpose; Capacitance: 10pF; ComponentLink1Description: Datasheet; ComponentLink1URL: https://katalog.we-online.de/pbs/datasheet/885012005055.pdf; ComponentLink2Description: DigiKey Link; ComponentLink2URL: http://digikey.com/product-detail/en/w-rth-elektronik/885012005055/732-7469-1-ND/5454096; Device Package: 0402 (1005 Metric); LastUpdated: 9/2/2020 1:02:24 AM; Lifecycle Status: Active; Minimum Order: 1; Mounting Type: Surface Mount, MLCC; Operating Temperature: -55°C ~ 125°C; Package / Case: 0402 (1005 Metric); Packaging: TapeAndReel; PartId: 1896; Part Status: Active; Price: 0.02; Series: WCAP-CSGP; Size / Dimension: 0.039" L x 0.020" W (1.00mm x 0.50mm); Supplier 1: DigiKey; Supplier Part Number 1: 732-7469-1-ND; Thickness (Max): 0.022" (0.55mm); Voltage - Rated: 50V
footprint CAP 0402_1005
pins: 1, 2

## 885012005056
designator C?, comment 15pF
CAP CER 15PF 50V C0G/NP0 0402; Part Number: 885012005056; Manufacturer: Würth Elektronik; Temperature Coefficient: C0G, NP0; Tolerance: ±5%; Value: 15pF; Applications: General Purpose; Capacitance: 15pF; ComponentLink1Description: Datasheet; ComponentLink1URL: https://katalog.we-online.de/pbs/datasheet/885012005056.pdf; ComponentLink2Description: DigiKey Link; ComponentLink2URL: http://digikey.com/product-detail/en/w-rth-elektronik/885012005056/732-7470-1-ND/5454097; Device Package: 0402 (1005 Metric); LastUpdated: 9/2/2020 1:02:22 AM; Lifecycle Status: Active; Minimum Order: 1; Mounting Type: Surface Mount, MLCC; Operating Temperature: -55°C ~ 125°C; Package / Case: 0402 (1005 Metric); Packaging: TapeAndReel; PartId: 2640; Part Status: Active; Price: 0.02; Series: WCAP-CSGP; Size / Dimension: 0.039" L x 0.020" W (1.00mm x 0.50mm); Supplier 1: DigiKey; Supplier Part Number 1: 732-7470-1-ND; Thickness (Max): 0.022" (0.55mm); Voltage - Rated: 50V
footprint CAP 0402_1005
pins: 1, 2

## 885012005057
designator C?, comment 22pF
CAP CER 22PF 50V C0G/NP0 0402; Part Number: 885012005057; Manufacturer: Würth Elektronik; Temperature Coefficient: C0G, NP0; Tolerance: ±5%; Value: 22pF; Applications: General Purpose; Capacitance: 22pF; ComponentLink1Description: Datasheet; ComponentLink1URL: https://katalog.we-online.de/pbs/datasheet/885012005057.pdf; ComponentLink2Description: DigiKey Link; ComponentLink2URL: http://digikey.com/product-detail/en/w-rth-elektronik/885012005057/732-7471-1-ND/5454098; Device Package: 0402 (1005 Metric); LastUpdated: 9/2/2020 1:02:11 AM; Lifecycle Status: Active; Minimum Order: 1; Mounting Type: Surface Mount, MLCC; Operating Temperature: -55°C ~ 125°C; Package / Case: 0402 (1005 Metric); Packaging: TapeAndReel; PartId: 7734; Part Status: Active; Price: 0.02; Series: WCAP-CSGP; Size / Dimension: 0.039" L x 0.020" W (1.00mm x 0.50mm); Supplier 1: DigiKey; Supplier Part Number 1: 732-7471-1-ND; Thickness (Max): 0.022" (0.55mm); Voltage - Rated: 50V
footprint CAP 0402_1005
pins: 1, 2

## 885012005058
designator C?, comment 33pF
CAP CER 33PF 50V C0G/NP0 0402; Part Number: 885012005058; Manufacturer: Würth Elektronik; Temperature Coefficient: C0G, NP0; Tolerance: ±5%; Value: 33pF; Applications: General Purpose; Capacitance: 33pF; ComponentLink1Description: Datasheet; ComponentLink1URL: https://katalog.we-online.de/pbs/datasheet/885012005058.pdf; ComponentLink2Description: DigiKey Link; ComponentLink2URL: http://digikey.com/product-detail/en/w-rth-elektronik/885012005058/732-7472-1-ND/5454099; Device Package: 0402 (1005 Metric); LastUpdated: 9/2/2020 1:02:06 AM; Lifecycle Status: Active; Minimum Order: 1; Mounting Type: Surface Mount, MLCC; Operating Temperature: -55°C ~ 125°C; Package / Case: 0402 (1005 Metric); Packaging: TapeAndReel; PartId: 9999; Part Status: Active; Price: 0.02; Series: WCAP-CSGP; Size / Dimension: 0.039" L x 0.020" W (1.00mm x 0.50mm); Supplier 1: DigiKey; Supplier Part Number 1: 732-7472-1-ND; Thickness (Max): 0.022" (0.55mm); Voltage - Rated: 50V
footprint CAP 0402_1005
pins: 1, 2

## 885012005059
designator C?, comment 47pF
CAP CER 47PF 50V C0G/NP0 0402; Part Number: 885012005059; Manufacturer: Würth Elektronik; Temperature Coefficient: C0G, NP0; Tolerance: ±5%; Value: 47pF; Applications: General Purpose; Capacitance: 47pF; ComponentLink1Description: Datasheet; ComponentLink1URL: https://katalog.we-online.de/pbs/datasheet/885012005059.pdf; ComponentLink2Description: DigiKey Link; ComponentLink2URL: http://digikey.com/product-detail/en/w-rth-elektronik/885012005059/732-7473-1-ND/5454100; Device Package: 0402 (1005 Metric); LastUpdated: 9/2/2020 1:02:06 AM; Lifecycle Status: Active; Minimum Order: 1; Mounting Type: Surface Mount, MLCC; Operating Temperature: -55°C ~ 125°C; Package / Case: 0402 (1005 Metric); Packaging: TapeAndReel; PartId: 10093; Part Status: Active; Price: 0.02; Series: WCAP-CSGP; Size / Dimension: 0.039" L x 0.020" W (1.00mm x 0.50mm); Supplier 1: DigiKey; Supplier Part Number 1: 732-7473-1-ND; Thickness (Max): 0.022" (0.55mm); Voltage - Rated: 50V
footprint CAP 0402_1005
pins: 1, 2